# Altium schematic symbol library AT42QT1011.SchLib: 1 symbol
Pins are listed as number, name and electrical type; pins without a type are passive.

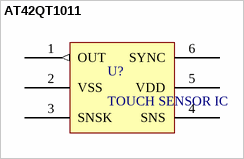
[diagram p0: symbol AT42QT1011]

## AT42QT1011
designator U?, comment TOUCH SENSOR IC
pins: 1 OUT (out), 2 VSS (power), 3 SNSK, 4 SNS (power), 5 VDD (power), 6 SYNC